# Altium schematic symbol library CONN-MUSB-E151-XX-MINIAB.SchLib: 1 symbol
Pins are listed as number, name and electrical type; pins without a type are passive.

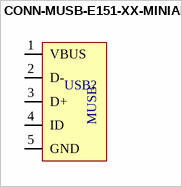
[diagram p0: symbol CONN-MUSB-E151-XX-MINIAB]

## CONN-MUSB-E151-XX-MINIAB
designator USB?  (value not drawn)
Connector Mini USB AB IP67
pins: 1 VBUS, 2 D-, 3 D+, 4 ID, 5 GND
text: MUSB